# Altium footprint library sucaiku.PcbLib: 35 footprints (part 1 of 3)
Each footprint in its own frame and in the unit in brackets; x right, y up, seen from the top. Pads: shape width x height; smd on the part's side, far side on the other; paste and mask are expansions set on the pad; w line width, h text height; cw(c..) or ccw(c..) is an arc to the next point about the centre after c.
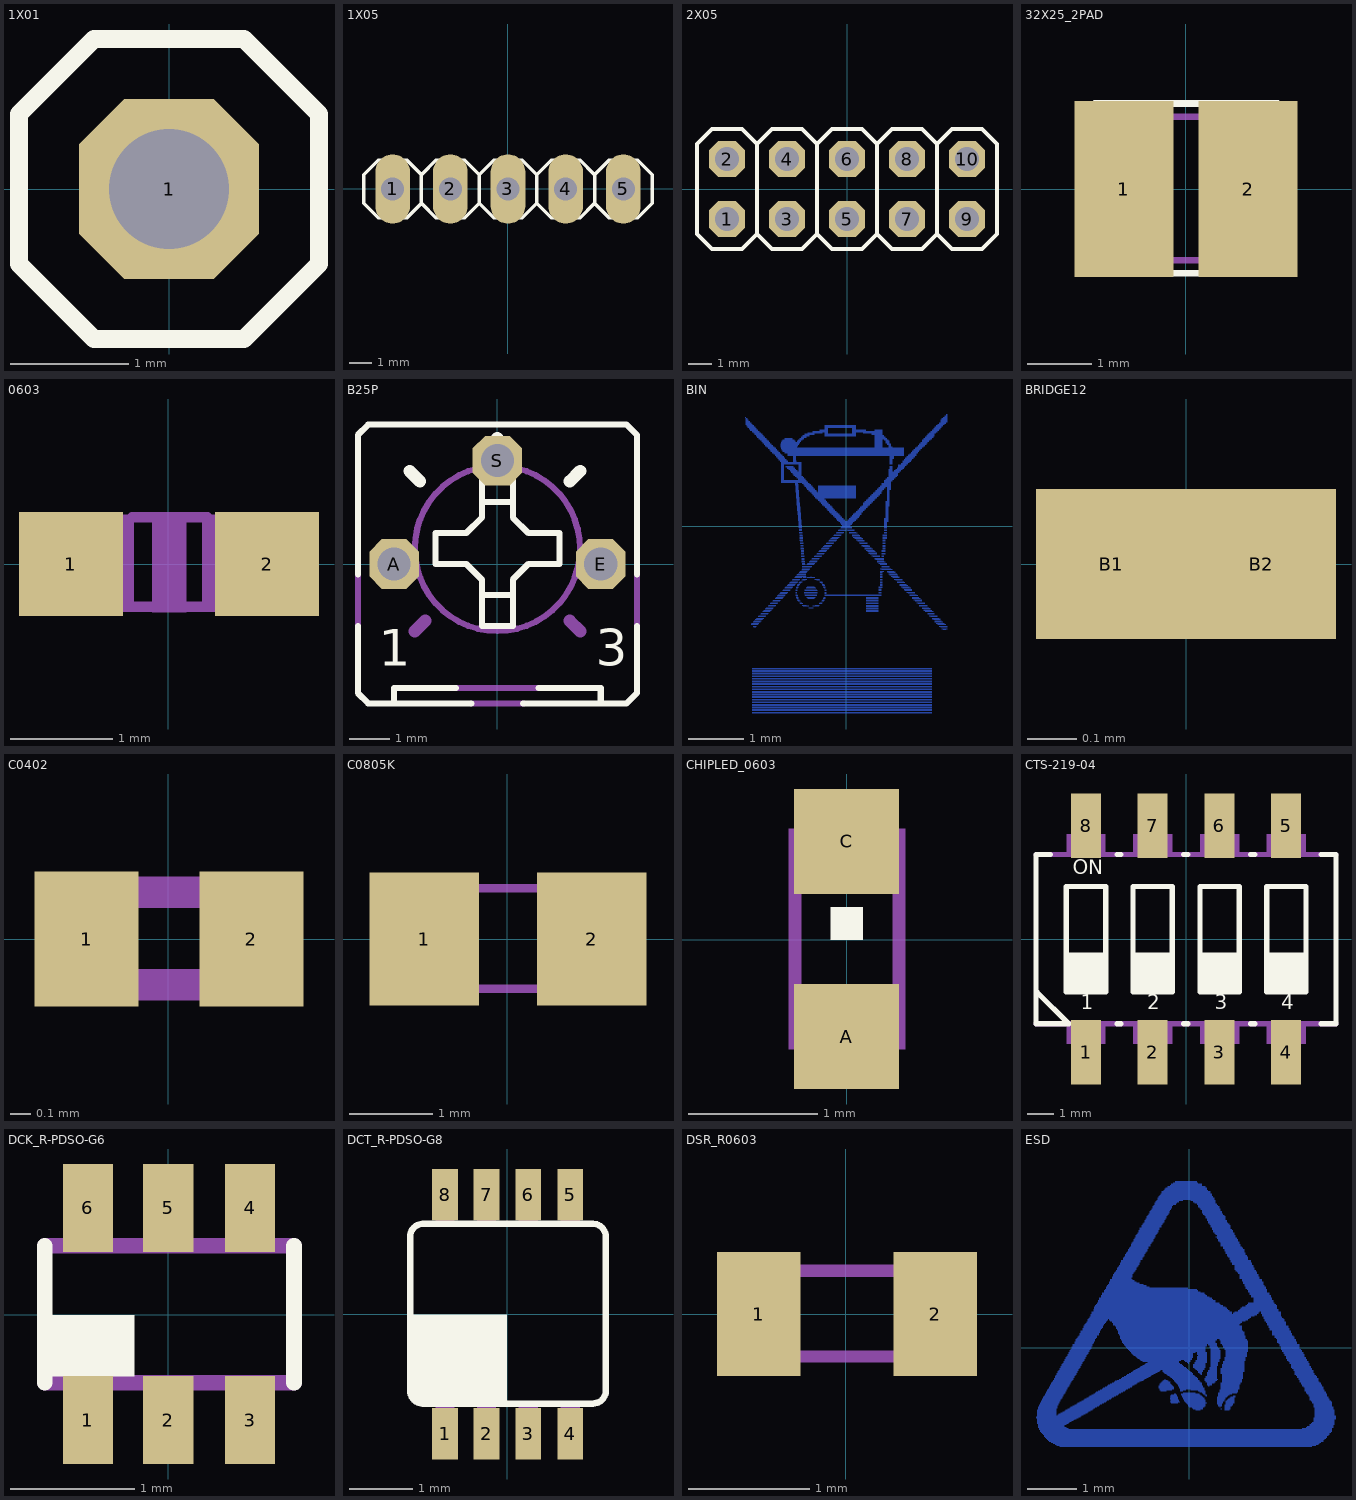
[diagram p0: the footprints below, top view; thin cyan lines are the x and y axes]

## 1X01 [mil] "1X01"
pads (1):
  oct 60x60 hole 40: 1(0,0)
Top Overlay:
  lines w6: -50,-25 -50,25 -25,50 25,50 50,25 50,-25 25,-50 -25,-50 -50,-25
Mechanical 16:
  rectangle: -10,-10 10,10

## 1X05 [mil] "1X05"
pads (5):
  oval 60x120 hole 40: 1(-200,0) 2(-100,0) 3(0,0) 4(100,0) 5(200,0)
Top Overlay:
  lines w6: -150,-25 -150,25 ; -150,-25 -175,-50 -225,-50 -250,-25 -250,25 -225,50 -175,50 -150,25 ; -150,-25 -125,-50 -75,-50 -50,-25 ; -150,25 -125,50 -75,50 -50,25 ; -50,-25 -25,-50 25,-50 50,-25 ; -50,-25 -50,25 ; -50,25 -25,50 25,50 50,25 ; 50,-25 50,25 ; 50,-25 75,-50 125,-50 150,-25 ; 50,25 75,50 125,50 150,25 ; 150,-25 150,25 ; 150,-25 175,-50 225,-50 250,-25 250,25 225,50 175,50 150,25
Mechanical 16:
  rectangle: 90,-10 110,10
  rectangle: -10,-10 10,10
  rectangle: -110,-10 -90,10
  rectangle: -210,-10 -190,10
  rectangle: 190,-10 210,10

## 2X05 [mil] "2X05"
pads (10):
  oct 60x60 hole 40: 1(-200,-50) 2(-200,50) 3(-100,-50) 4(-100,50) 5(0,-50) 6(0,50) 7(100,-50) 8(100,50) 9(200,-50) 10(200,50)
Top Overlay:
  lines w6: -150,-75 -175,-100 -225,-100 -250,-75 -250,75 -225,100 -175,100 -150,75 ; -150,-75 -125,-100 -75,-100 -50,-75 ; -150,-75 -150,75 ; -150,75 -125,100 -75,100 -50,75 ; -50,-75 -25,-100 25,-100 50,-75 ; -50,-75 -50,75 ; -50,75 -25,100 25,100 50,75 ; 50,-75 75,-100 125,-100 150,-75 ; 50,-75 50,75 ; 50,75 75,100 125,100 150,75 ; 150,-75 150,75 ; 150,-75 175,-100 225,-100 250,-75 250,75 225,100 175,100 150,75
Mechanical 16:
  rectangle: -210,-60 -190,-40
  rectangle: -210,40 -190,60
  rectangle: -109.98,40 -89.98,60
  rectangle: -109.98,-60 -89.98,-40
  rectangle: -10,40 10,60
  rectangle: -10,-60 10,-40
  rectangle: 90.02,40 110.02,60
  rectangle: 90.02,-60 110.02,-40
  rectangle: 190,40 210,60
  rectangle: 190,-60 210,-40

## 32X25_2PAD [mil] "32X25_2PAD"
pads (2):
  rect 60x107 smd: 1(-37.4,0) 2(38,0)
Top Overlay:
  lines w4: -62.99,-43.31 -55.12,-51.18 56,-51.18 63,-43.31 63,-31.5 60,-27.56 60,28 63,32 63,44 56,52 -55.12,52 -62.99,44 -62.99,32 -59.06,28 -59.06,-27.56 -62.99,-31.5 -62.99,-43.31
Mechanical 16:
  lines w4: -51.18,-27.56 ccw(c-35.43,-27.56) -35.43,-43.31 36,-43.31 ccw(c36.13,-27.43) 52,-27.56 52,28 ccw(c36,28) 36,44 -35.43,44 ccw(c-35.31,28.13) -51.18,28 -51.18,-27.56

## 0603 [mil] "0603"
pads (2):
  rect 40x40 smd: 1(-37.5,0) 2(38,0)
Mechanical 6:
  rectangle: -6.25,-18.73 7,19.02
Mechanical 16:
  rectangle: -32.98,-18.5 -13.29,19
  rectangle: 13,-18.48 33,19.02
  lines w4: -14.02,-16.5 15,-16.5 ; -14.02,18 15,18

## B25P [mil] "B25P"
pads (3):
  oct 48x48 hole 32: A(-100,0) E(100,0) S(0,100)
Top Overlay:
  lines w6: -135,-60 -135,-125 -125,-135 -100,-135 ; -135,-10 -135,125 -125,135 125,135 135,125 135,-10 ; -40,-120 -100,-120 -100,-135 ; -25,-135 -100,-135 ; 25,-135 100,-135 ; 40,-120 100,-120 100,-135 ; 135,-60 135,-125 125,-135 100,-135 ; -15,-30 -15,-60 15,-60 15,-30 ; -15,-30 15,-30 ; -15,-30 -15,-15 -30,0 -60,0 -60,30 -30,30 -15,45 -15,60 ; -15,60 15,60 ; -15,60 -15,90 15,90 15,60 ; 15,-30 15,-15 30,0 60,0 60,30 30,30 15,45 15,60
  lines w12: -109,15 -94,15 ; -85,90 -75,80 ; 0,107 0,122 ; 70,80 80,90 ; 94,15 109,15
  text "1" at -115,-110 h60.45
  text "3" at 95,-110 h60.45
Mechanical 16:
  circle w6: c0,15 r80
  lines w6: -135,-60 -135,-10 ; -40,-120 40,-120 ; -25,-135 25,-135 ; 135,-60 135,-10
  lines w12: -80,-65 -70,-55 ; 70,-55 80,-65

## BIN [mil] "BIN"
Bottom Layer:
  drawing of 1868 lines, arcs and shapes, not listed

## BRIDGE12 [mil] "BRIDGE12"
pads (2):
  rect 12x12 smd: B1(-6,0) B2(6,0)

## C0402 [mil] "C0402"
pads (2):
  rect 20x26 smd: 1(-15.75,0) 2(16,0)
Mechanical 16:
  rectangle: -21.79,-12 -9.97,12
  rectangle: 11,-12 22,12
  lines w6: -9.65,-8.82 10,-8.82 ; -9.65,9 10,9

## C0805K [mil] "C0805K"
pads (2):
  rect 52x63 smd: 1(-39.37,0) 2(40,0)
Mechanical 16:
  rectangle: -39.37,-25.59 -19.68,26
  rectangle: 20,-25.59 40,26
  lines w4: -36.42,-23.62 37,-23.62 ; -36.42,24 37,24

## CHIPLED_0603 [mil] "CHIPLED_0603"
pads (2):
  rect 32x32 smd: A(0,-29.53) C(0,30)
Top Overlay:
  rectangle: -4.92,0 5,10
Mechanical 16:
  circle w2: c-13.78,25 r3
  rectangle: -17.72,28 -9.84,34
  rectangle: -10.83,22 -8.86,24
  rectangle: -17.72,14 -15.75,29
  rectangle: 10,22 18,34
  rectangle: -17.72,14 18,23
  rectangle: -17.72,-33.46 -9.84,-13.78
  rectangle: 10,-33.46 18,-13.78
  rectangle: -10.83,-22.64 11,-13.78
  rectangle: -10.83,-25.59 -6.89,-21.65
  rectangle: 7,-25.59 11,-21.65
  lines w2: -10.83,-32.48 cw(c0.09,-32.48) 11,-32.48
  lines w4: -15.75,-13.78 -15.75,15 ; -11.81,32 ccw(c0.09,33.04) 12,32 ; 16,-13.78 16,14

## CTS-219-04 [mil] "CTS-219-04"
pads (8):
  rect 45x97 smd: 1(-150,-169.29) 2(-50,-169.29) 3(50,-169.29) 4(150,-169.29) 5(150,170) 6(50,170) 7(-50,170) 8(-150,170)
Top Overlay:
  rectangle: -179.53,-78.72 -120.47,-19.66
  rectangle: -79.53,-78.74 -20.47,-19.68
  rectangle: 21,-78.72 80,-19.66
  rectangle: 121,-78.74 180,-19.68
  lines w8: -224.02,-78.74 -175.79,-126.97 ; -203.15,-126.97 -175.79,-126.97 ; -203.15,127 -225,127 -225,-126.97 -175.79,-126.97 ; -103.15,-126.97 -97.83,-126.97 ; -103.15,127 -97.83,127 ; -3.15,-126.97 3,-126.97 ; -3.15,127 3,127 ; 97,-126.97 103,-126.97 ; 97,127 103,127 ; 203,-126.97 225,-126.97 225,127 203,127 ; -179.53,-78.74 -120.47,-78.74 -120.47,79 -179.53,79 -179.53,-78.74 ; -79.53,-78.74 -20.47,-78.74 -20.47,79 -79.53,79 -79.53,-78.74 ; 21,-78.74 80,-78.74 80,79 21,79 21,-78.74 ; 121,-78.74 180,-78.74 180,79 121,79 121,-78.74
  text "ON" at -169.69,90 h37.2
  text "1" at -157.87,-112.2 h37.2
  text "2" at -57.87,-112.2 h37.2
  text "3" at 43,-112.2 h37.2
  text "4" at 143,-112.2 h37.2
Mechanical 16:
  region: -120.47,-127.95 -179.53,-127.95 -179.53,-157.48 -120.47,-157.48
  region: 80,-127.95 21,-127.95 21,-157.48 80,-157.48
  region: -20.47,-127.95 -79.53,-127.95 -79.53,-157.48 -20.47,-157.48
  region: 180,-127.95 121,-127.95 121,-157.48 180,-157.48
  rectangle: 121,128 180,158
  rectangle: -79.53,128 -20.47,158
  rectangle: 21,128.02 80,158.02
  rectangle: -179.53,128.02 -120.47,158.02
  region: -140.16,195 -159.84,195 -159.84,158 -140.16,158
  rectangle: -159.84,-194.88 -140.16,-157.48
  region: -40.18,195 -59.87,195 -59.87,158 -40.18,158
  rectangle: -59.84,-194.88 -40.16,-157.48
  region: 60,195 41,195 41,158 60,158
  rectangle: 41.02,-194.88 60.02,-157.48
  region: 160,195 141,195 141,158 160,158
  rectangle: 141,-194.88 160,-157.48
  lines w8: -225,-126.97 225,-126.97 ; -225,127 225,127

## DCK_R-PDSO-G6 [mil] "DCK_R-PDSO-G6"
pads (6):
  rect 16x28 smd: 1(-25.59,-33.46) 2(0,-33.46) 3(26,-33.46) 4(26,34) 5(0,34) 6(-25.59,34)
Top Overlay:
  rectangle: -37.38,-19.66 -10.8,0.02
  lines w5: -39.37,-21.65 -39.37,22 ; 40,-21.65 40,22
Mechanical 16:
  rectangle: -4.92,-41.34 5,-23.62
  rectangle: -30.51,-41.34 -20.67,-23.62
  rectangle: 21,-41.34 31,-23.62
  rectangle: -30.51,24 -20.67,42
  rectangle: 21,24 31,42
  rectangle: -4.92,24 5,42
  lines w5: -39.37,-21.65 40,-21.65 ; -39.37,22 40,22

## DCT_R-PDSO-G8 [mil] "DCT_R-PDSO-G8"
pads (8):
  rect 16x32 smd: 1(-38.39,-73.82) 2(-12.8,-73.82) 3(13,-73.82) 4(39,-73.82) 5(39,74) 6(13,74) 7(-12.8,74) 8(-38.39,74)
Top Overlay:
  rectangle: -59.05,-53.15 0,0
  lines w4: -60.04,-47.24 ccw(c-52.17,-47.24) -52.17,-55.12 53,-55.12 ccw(c53.06,-47.18) 61,-47.24 61,48 ccw(c53,48) 53,56 -52.17,56 ccw(c-52.1,48.06) -60.04,48 -60.04,-47.24
Top Solder:
  rectangle: -48.23,-92.52 -28.54,-56.1
  rectangle: -22.64,-92.52 -2.95,-56.1
  rectangle: 3,-92.52 23,-56.1
  rectangle: 29,-92.52 49,-56.1
  region: 49,93 29,93 29,57 49,57
  region: 23,93 3,93 3,57 23,57
  region: -2.93,93 -22.61,93 -22.61,57 -2.93,57
  region: -28.54,93 -48.23,93 -48.23,57 -28.54,57
Mechanical 16:
  rectangle: -44.29,-83.66 -32.48,-55.12
  rectangle: -18.7,-83.66 -6.89,-55.12
  rectangle: 7,-83.66 19,-55.12
  rectangle: 33,-83.66 45,-55.12
  region: 45,84 33,84 33,56 45,56
  region: 19,84 7,84 7,56 19,56
  region: -6.86,84 -18.68,84 -18.68,56 -6.86,56
  region: -32.48,84 -44.29,84 -44.29,56 -32.48,56

## DSR_R0603 [mil] "DSR_R0603"
pads (2):
  rect 27x40 smd: 1(-28.15,0) 2(29,0)
Mechanical 16:
  rectangle: -31.5,-15.75 -17.72,16
  rectangle: 18,-15.73 32,16.02
  lines w4: -28.54,-13.78 29,-13.78 ; -28.54,14 29,14

## ESD [mil] "ESD"
Bottom Layer:
  region: 98,-78.22 -103.41,-78.22 -103.41,-79 98,-79
  region: 101,-77.43 -105.77,-77.43 -105.77,-78.22 101,-78.22
  region: 103,-76.65 -107.35,-76.65 -107.35,-77.43 103,-77.43
  region: 104,-75.85 -108.92,-75.85 -108.92,-76.64 104,-76.64
  region: 105,-75.07 -110.5,-75.07 -110.5,-75.85 105,-75.85
  region: 107,-74.28 -112.07,-74.28 -112.07,-75.07 107,-75.07
  region: 107,-73.49 -112.85,-73.49 -112.85,-74.28 107,-74.28
  region: 108,-72.7 -113.64,-72.7 -113.64,-73.49 108,-73.49
  region: 109,-71.92 -114.43,-71.92 -114.43,-72.7 109,-72.7
  region: 110,-71.13 -115.22,-71.13 -115.22,-71.92 110,-71.92
  region: 110,-70.34 -116,-70.34 -116,-71.13 110,-71.13
  region: 111,-69.56 -116.01,-69.56 -116.01,-70.35 111,-70.35
  region: 112,-68.77 -116.8,-68.77 -116.8,-69.56 112,-69.56
  region: 112,-67.98 -117.58,-67.98 -117.58,-68.77 112,-68.77
  region: 113,-67.19 -118.37,-67.19 -118.37,-67.98 113,-67.98
  region: 114,-66.41 -119.15,-66.41 -119.15,-67.19 114,-67.19
  region: 114,-65.62 -119.15,-65.62 -119.15,-66.41 114,-66.41
  region: 114,-64.83 -119.94,-64.83 -119.94,-65.62 114,-65.62
  region: 114,-64.04 90,-64.04 90,-64.83 114,-64.83
  region: -96.32,-64.04 -119.94,-64.04 -119.94,-64.83 -96.32,-64.83
  region: 115,-63.26 93,-63.26 93,-64.04 115,-64.04
  region: -97.9,-63.26 -120.73,-63.26 -120.73,-64.04 -97.9,-64.04
  region: 115,-62.47 94,-62.47 94,-63.26 115,-63.26
  region: -99.47,-62.47 -120.73,-62.47 -120.73,-63.26 -99.47,-63.26
  region: 115,-61.68 96,-61.68 96,-62.47 115,-62.47
  region: -99.47,-61.68 -120.73,-61.68 -120.73,-62.47 -99.47,-62.47
  region: 116,-60.89 96,-60.89 96,-61.68 116,-61.68
  region: -97.9,-60.89 -120.73,-60.89 -120.73,-61.68 -97.9,-61.68
  region: 116,-60.11 97,-60.11 97,-60.89 116,-60.89
  region: -96.32,-60.11 -121.52,-60.11 -121.52,-60.89 -96.32,-60.89
  region: 116,-59.32 98,-59.32 98,-60.11 116,-60.11
  region: -95.54,-59.32 -121.52,-59.32 -121.52,-60.11 -95.54,-60.11
  region: 116,-58.53 99,-58.53 99,-59.32 116,-59.32
  region: -93.96,-58.54 -121.52,-58.54 -121.52,-59.32 -93.96,-59.32
  region: 116,-57.74 99,-57.74 99,-58.53 116,-58.53
  region: -92.38,-57.74 -121.52,-57.74 -121.52,-58.53 -92.38,-58.53
  region: 116,-56.96 99,-56.96 99,-57.74 116,-57.74
  region: -91.6,-56.96 -121.52,-56.96 -121.52,-57.74 -91.6,-57.74
  region: 117,-56.17 99,-56.17 99,-56.96 117,-56.96
  region: -90.02,-56.17 -121.52,-56.17 -121.52,-56.96 -90.02,-56.96
  region: 117,-55.38 99,-55.38 99,-56.17 117,-56.17
  region: -88.45,-55.38 -122.31,-55.38 -122.31,-56.17 -88.45,-56.17
  region: 117,-54.59 100,-54.59 100,-55.38 117,-55.38
  region: -86.87,-54.6 -122.31,-54.6 -122.31,-55.39 -86.87,-55.39
  region: 117,-53.81 100,-53.81 100,-54.59 117,-54.59
  region: -86.08,-53.81 -121.52,-53.81 -121.52,-54.59 -86.08,-54.59
  region: 116,-53.02 100,-53.02 100,-53.81 116,-53.81
  region: -84.51,-53.02 -104.98,-53.02 -104.98,-53.81 -84.51,-53.81
  region: -105.77,-53.02 -121.52,-53.02 -121.52,-53.81 -105.77,-53.81
  region: 116,-52.23 100,-52.23 100,-53.02 116,-53.02
  region: -82.94,-52.23 -104.2,-52.23 -104.2,-53.02 -82.94,-53.02
  region: -105.77,-52.23 -121.52,-52.23 -121.52,-53.02 -105.77,-53.02
  region: 116,-51.44 100,-51.44 100,-52.23 116,-52.23
  region: -81.36,-51.44 -102.62,-51.44 -102.62,-52.23 -81.36,-52.23
  region: -105.77,-51.44 -121.52,-51.44 -121.52,-52.23 -105.77,-52.23
  region: 116,-50.66 100,-50.66 100,-51.44 116,-51.44
  region: -80.57,-50.66 -101.05,-50.66 -101.05,-51.45 -80.57,-51.45
  region: -105.77,-50.66 -121.52,-50.66 -121.52,-51.45 -105.77,-51.45
  region: 116,-49.87 100,-49.87 100,-50.66 116,-50.66
  region: -79,-49.87 -99.47,-49.87 -99.47,-50.66 -79,-50.66
  region: -105.77,-49.87 -121.52,-49.87 -121.52,-50.66 -105.77,-50.66
  region: 116,-49.08 100,-49.08 100,-49.87 116,-49.87
  region: 32,-49.08 28,-49.08 28,-49.87 32,-49.87
  region: 9,-49.08 5,-49.08 5,-49.87 9,-49.87
  region: -77.43,-49.08 -98.69,-49.08 -98.69,-49.87 -77.43,-49.87
  region: -105.77,-49.08 -121.52,-49.08 -121.52,-49.87 -105.77,-49.87
  region: 115,-48.3 100,-48.3 100,-49.08 115,-49.08
  region: 33,-48.3 28,-48.3 28,-49.08 33,-49.08
  region: 26,-48.3 25,-48.3 25,-49.08 26,-49.08
  region: 11,-48.3 3,-48.3 3,-49.08 11,-49.08
  region: -76.64,-48.3 -97.11,-48.3 -97.11,-49.08 -76.64,-49.08
  region: -105.77,-48.3 -120.73,-48.3 -120.73,-49.08 -105.77,-49.08
  region: 115,-47.51 100,-47.51 100,-48.3 115,-48.3
  region: 33,-47.51 28,-47.51 28,-48.3 33,-48.3
  region: 11,-47.51 2,-47.51 2,-48.3 11,-48.3
  region: -75.06,-47.51 -95.54,-47.51 -95.54,-48.3 -75.06,-48.3
  region: -104.98,-47.51 -120.73,-47.51 -120.73,-48.3 -104.98,-48.3
  region: 115,-46.72 99,-46.72 99,-47.51 115,-47.51
  region: 33,-46.72 28,-46.72 28,-47.51 33,-47.51
  region: 25,-46.72 24,-46.72 24,-47.51 25,-47.51
  region: 12,-46.72 -0.26,-46.72 -0.26,-47.51 12,-47.51
  region: -73.48,-46.72 -94.74,-46.72 -94.74,-47.51 -73.48,-47.51
  region: -104.98,-46.72 -120.73,-46.72 -120.73,-47.51 -104.98,-47.51
  region: 114,-45.94 99,-45.94 99,-46.72 114,-46.72
  region: 34,-45.94 28,-45.94 28,-46.72 34,-46.72
  region: 26,-45.94 23,-45.94 23,-46.72 26,-46.72
  region: 13,-45.94 -1.04,-45.94 -1.04,-46.72 13,-46.72
  region: -71.91,-45.94 -93.17,-45.94 -93.17,-46.72 -71.91,-46.72
  region: -104.98,-45.94 -119.94,-45.94 -119.94,-46.72 -104.98,-46.72
  region: 114,-45.15 99,-45.15 99,-45.93 114,-45.93
  region: 35,-45.15 28,-45.15 28,-45.93 35,-45.93
  region: 26,-45.15 23,-45.15 23,-45.93 26,-45.93
  region: 13,-45.15 -1.05,-45.15 -1.05,-45.93 13,-45.93
  region: -71.13,-45.15 -91.6,-45.15 -91.6,-45.93 -71.13,-45.93
  region: -104.2,-45.15 -119.94,-45.15 -119.94,-45.93 -104.2,-45.93
  region: 114,-44.36 99,-44.36 99,-45.15 114,-45.15
  region: 35,-44.36 29,-44.36 29,-45.15 35,-45.15
  region: 26,-44.36 22,-44.36 22,-45.15 26,-45.15
  region: 13,-44.36 -1.83,-44.36 -1.83,-45.15 13,-45.15
  region: -69.55,-44.36 -90.02,-44.36 -90.02,-45.15 -69.55,-45.15
  region: -104.2,-44.36 -119.16,-44.36 -119.16,-45.15 -104.2,-45.15
  region: 114,-43.57 98,-43.57 98,-44.36 114,-44.36
  region: 36,-43.57 29,-43.57 29,-44.36 36,-44.36
  region: 27,-43.57 22,-43.57 22,-44.36 27,-44.36
  region: 14,-43.57 -2.62,-43.57 -2.62,-44.36 14,-44.36
  region: -8.92,-43.57 -14.43,-43.57 -14.43,-44.36 -8.92,-44.36
  region: -67.98,-43.57 -89.24,-43.57 -89.24,-44.36 -67.98,-44.36
  region: -103.41,-43.57 -119.16,-43.57 -119.16,-44.36 -103.41,-44.36
  region: 114,-42.79 98,-42.79 98,-43.57 114,-43.57
  region: 36,-42.79 29,-42.79 29,-43.57 36,-43.57
  region: 27,-42.79 22,-42.79 22,-43.57 27,-43.57
  region: 13,-42.79 -3.41,-42.79 -3.41,-43.57 13,-43.57
  region: -7.35,-42.78 -15.22,-42.78 -15.22,-43.57 -7.35,-43.57
  region: -66.4,-42.79 -87.66,-42.79 -87.66,-43.57 -66.4,-43.57
  region: -103.41,-42.78 -118.37,-42.78 -118.37,-43.57 -103.41,-43.57
  region: 113,-42 97,-42 97,-42.79 113,-42.79
  region: 36,-42 29,-42 29,-42.79 36,-42.79
  region: 28,-42 22,-42 22,-42.79 28,-42.79
  region: 13,-42 -4.19,-42 -4.19,-42.78 13,-42.78
  region: -8.13,-42 -15.22,-42 -15.22,-42.78 -8.13,-42.78
  region: -65.61,-42 -86.09,-42 -86.09,-42.79 -65.61,-42.79
  region: -102.62,-42 -118.37,-42 -118.37,-42.79 -102.62,-42.79
  region: 112,-41.21 96,-41.21 96,-42 112,-42
  region: 36,-41.21 30,-41.21 30,-42 36,-42
  region: 28,-41.21 22,-41.21 22,-42 28,-42
  region: 13,-41.21 -4.2,-41.21 -4.2,-42 13,-42
  region: -8.13,-41.21 -15.22,-41.21 -15.22,-42 -8.13,-42
  region: -64.04,-41.21 -84.51,-41.21 -84.51,-42 -64.04,-42
  region: -102.62,-41.21 -117.58,-41.21 -117.58,-42 -102.62,-42
  region: 112,-40.42 96,-40.42 96,-41.21 112,-41.21
  region: 36,-40.42 31,-40.42 31,-41.21 36,-41.21
  region: 29,-40.42 22,-40.42 22,-41.21 29,-41.21
  region: 12,-40.42 -4.98,-40.42 -4.98,-41.21 12,-41.21
  region: -8.92,-40.42 -15.22,-40.42 -15.22,-41.21 -8.92,-41.21
  region: -62.46,-40.42 -83.72,-40.42 -83.72,-41.21 -62.46,-41.21
  region: -101.83,-40.42 -117.58,-40.42 -117.58,-41.21 -101.83,-41.21
  region: 111,-39.63 96,-39.63 96,-40.42 111,-40.42
  region: 36,-39.63 32,-39.63 32,-40.42 36,-40.42
  region: 29,-39.63 22,-39.63 22,-40.42 29,-40.42
  region: 12,-39.63 -4.98,-39.63 -4.98,-40.42 12,-40.42
  region: -8.92,-39.63 -15.22,-39.63 -15.22,-40.42 -8.92,-40.42
  region: -61.68,-39.63 -82.15,-39.63 -82.15,-40.42 -61.68,-40.42
  region: -101.04,-39.63 -116.79,-39.63 -116.79,-40.42 -101.04,-40.42
  region: 111,-38.85 96,-38.85 96,-39.63 111,-39.63
  region: 37,-38.85 33,-38.85 33,-39.63 37,-39.63
  region: 30,-38.85 22,-38.85 22,-39.63 30,-39.63
  region: 11,-38.85 -5.77,-38.85 -5.77,-39.64 11,-39.64
  region: -8.92,-38.85 -15.22,-38.85 -15.22,-39.63 -8.92,-39.63
  region: -60.1,-38.85 -80.57,-38.85 -80.57,-39.63 -60.1,-39.63
  region: -101.04,-38.85 -116.79,-38.85 -116.79,-39.63 -101.04,-39.63
  region: 110,-38.06 95,-38.06 95,-38.85 110,-38.85
  region: 37,-38.06 35,-38.06 35,-38.85 37,-38.85
  region: 31,-38.06 23,-38.06 23,-38.85 31,-38.85
  region: 14,-38.06 13,-38.06 13,-38.85 14,-38.85
  region: 10,-38.06 -5.77,-38.06 -5.77,-38.85 10,-38.85
  region: -9.71,-38.06 -15.22,-38.06 -15.22,-38.85 -9.71,-38.85
  region: -58.52,-38.06 -79.78,-38.06 -79.78,-38.85 -58.52,-38.85
  region: -100.26,-38.06 -116,-38.06 -116,-38.85 -100.26,-38.85
  region: 110,-37.27 95,-37.27 95,-38.06 110,-38.06
  region: 32,-37.27 23,-37.27 23,-38.06 32,-38.06
  region: 14,-37.27 12,-37.27 12,-38.06 14,-38.06
  region: 9,-37.27 -6.56,-37.27 -6.56,-38.06 9,-38.06
  region: -9.71,-37.27 -14.43,-37.27 -14.43,-38.06 -9.71,-38.06
  region: -56.95,-37.27 -78.21,-37.27 -78.21,-38.06 -56.95,-38.06
  region: -100.26,-37.27 -115.22,-37.27 -115.22,-38.06 -100.26,-38.06
  region: 110,-36.48 94,-36.48 94,-37.27 110,-37.27
  region: 34,-36.48 23,-36.48 23,-37.27 34,-37.27
  region: 13,-36.48 11,-36.48 11,-37.27 13,-37.27
  region: 8,-36.48 -6.56,-36.48 -6.56,-37.27 8,-37.27
  region: -10.5,-36.48 -12.07,-36.48 -12.07,-37.27 -10.5,-37.27
  region: -56.17,-36.48 -76.64,-36.48 -76.64,-37.27 -56.17,-37.27
  region: -99.47,-36.48 -115.22,-36.48 -115.22,-37.27 -99.47,-37.27
  region: 109,-35.7 93,-35.7 93,-36.48 109,-36.48
  region: 38,-35.7 23,-35.7 23,-36.48 38,-36.48
  region: 13,-35.7 10,-35.7 10,-36.48 13,-36.48
  region: 5,-35.7 -4.98,-35.7 -4.98,-36.48 5,-36.48
  region: -54.59,-35.7 -75.06,-35.7 -75.06,-36.48 -54.59,-36.48
  region: -98.69,-35.7 -114.43,-35.7 -114.43,-36.48 -98.69,-36.48
  region: 109,-34.91 93,-34.91 93,-35.7 109,-35.7
  region: 39,-34.91 24,-34.91 24,-35.7 39,-35.7
  region: 13,-34.91 8,-34.91 8,-35.7 13,-35.7
  region: -53.02,-34.91 -74.28,-34.91 -74.28,-35.7 -53.02,-35.7
  region: -98.69,-34.91 -114.43,-34.91 -114.43,-35.7 -98.69,-35.7
  region: 108,-34.12 92,-34.12 92,-34.91 108,-34.91
  region: 39,-34.12 24,-34.12 24,-34.91 39,-34.91
  region: 13,-34.12 7,-34.12 7,-34.91 13,-34.91
  region: -4.98,-34.12 -7.35,-34.12 -7.35,-34.91 -4.98,-34.91
  region: -18.37,-34.12 -23.09,-34.12 -23.09,-34.91 -18.37,-34.91
  region: -51.44,-34.12 -72.7,-34.12 -72.7,-34.91 -51.44,-34.91
  region: -97.9,-34.12 -113.65,-34.12 -113.65,-34.91 -97.9,-34.91
  region: 108,-33.33 92,-33.33 92,-34.12 108,-34.12
  region: 39,-33.33 24,-33.33 24,-34.12 39,-34.12
  region: 12,-33.33 1,-33.33 1,-34.12 12,-34.12
  region: -2.62,-33.33 -7.35,-33.33 -7.35,-34.12 -2.62,-34.12
  region: -13.65,-33.33 -23.88,-33.33 -23.88,-34.12 -13.65,-34.12
  region: -50.65,-33.33 -71.13,-33.33 -71.13,-34.12 -50.65,-34.12
  region: -97.9,-33.33 -113.65,-33.33 -113.65,-34.12 -97.9,-34.12
  region: 107,-32.55 92,-32.55 92,-33.33 107,-33.33
  region: 40,-32.55 25,-32.55 25,-33.33 40,-33.33
  region: 12,-32.55 -7.34,-32.55 -7.34,-33.33 12,-33.33
  region: -12.07,-32.55 -23.88,-32.55 -23.88,-33.33 -12.07,-33.33
  region: -49.07,-32.55 -69.55,-32.55 -69.55,-33.33 -49.07,-33.33
  region: -97.11,-32.55 -112.85,-32.55 -112.85,-33.33 -97.11,-33.33
  region: 107,-31.76 92,-31.76 92,-32.55 107,-32.55
  region: 40,-31.76 25,-31.76 25,-32.55 40,-32.55
  region: 12,-31.76 -8.13,-31.76 -8.13,-32.55 12,-32.55
  region: -12.07,-31.76 -24.67,-31.76 -24.67,-32.55 -12.07,-32.55
  region: -47.5,-31.76 -68.76,-31.76 -68.76,-32.55 -47.5,-32.55
  region: -97.11,-31.76 -112.07,-31.76 -112.07,-32.55 -97.11,-32.55
  region: 107,-30.97 91,-30.97 91,-31.76 107,-31.76
  region: 40,-30.98 25,-30.98 25,-31.76 40,-31.76
  region: 11,-30.98 -8.13,-30.98 -8.13,-31.76 11,-31.76
  region: -12.07,-30.98 -24.67,-30.98 -24.67,-31.76 -12.07,-31.76
  region: -45.93,-30.97 -67.19,-30.97 -67.19,-31.76 -45.93,-31.76
  region: -96.32,-30.97 -112.07,-30.97 -112.07,-31.76 -96.32,-31.76
  region: 106,-30.18 90,-30.18 90,-30.97 106,-30.97
  region: 40,-30.18 25,-30.18 25,-30.97 40,-30.97
  region: 16,-30.18 15,-30.18 15,-30.97 16,-30.97
  region: 11,-30.18 -8.92,-30.18 -8.92,-30.97 11,-30.97
  region: -12.86,-30.18 -24.67,-30.18 -24.67,-30.97 -12.86,-30.97
  region: -45.14,-30.18 -65.61,-30.18 -65.61,-30.97 -45.14,-30.97
  region: -95.54,-30.18 -111.28,-30.18 -111.28,-30.97 -95.54,-30.97
  region: 106,-29.4 90,-29.4 90,-30.18 106,-30.18
  region: 40,-29.4 25,-29.4 25,-30.18 40,-30.18
  region: 18,-29.4 14,-29.4 14,-30.18 18,-30.18
  region: 10,-29.4 -8.92,-29.4 -8.92,-30.18 10,-30.18
  region: -13.65,-29.4 -23.88,-29.4 -23.88,-30.18 -13.65,-30.18
  region: -43.57,-29.4 -64.83,-29.4 -64.83,-30.18 -43.57,-30.18
  region: -95.54,-29.4 -111.28,-29.4 -111.28,-30.18 -95.54,-30.18
  region: 105,-28.61 89,-28.61 89,-29.4 105,-29.4
  region: 41,-28.61 25,-28.61 25,-29.4 41,-29.4
  region: 18,-28.61 14,-28.61 14,-29.4 18,-29.4
  region: 10,-28.61 -9.71,-28.61 -9.71,-29.4 10,-29.4
  region: -14.43,-28.61 -23.88,-28.61 -23.88,-29.4 -14.43,-29.4
  region: -41.99,-28.61 -63.25,-28.61 -63.25,-29.4 -41.99,-29.4
  region: -94.75,-28.61 -110.5,-28.61 -110.5,-29.4 -94.75,-29.4
  region: 105,-27.82 89,-27.82 89,-28.61 105,-28.61
  region: 41,-27.82 25,-27.82 25,-28.61 41,-28.61
  region: 20,-27.82 14,-27.82 14,-28.61 20,-28.61
  region: 10,-27.83 -10.5,-27.83 -10.5,-28.61 10,-28.61
  region: -15.22,-27.82 -23.09,-27.82 -23.09,-28.61 -15.22,-28.61
  region: -41.2,-27.82 -61.67,-27.82 -61.67,-28.61 -41.2,-28.61
  region: -94.75,-27.82 -110.5,-27.82 -110.5,-28.61 -94.75,-28.61
  region: 104,-27.04 88,-27.04 88,-27.83 104,-27.83
  region: 42,-27.04 26,-27.04 26,-27.82 42,-27.82
  region: 21,-27.04 13,-27.04 13,-27.83 21,-27.83
  region: 9,-27.04 -11.28,-27.04 -11.28,-27.83 9,-27.83
  region: -15.22,-27.04 -22.3,-27.04 -22.3,-27.82 -15.22,-27.82
  region: -39.63,-27.04 -60.1,-27.04 -60.1,-27.83 -39.63,-27.83
  region: -93.96,-27.04 -109.7,-27.04 -109.7,-27.82 -93.96,-27.82
  region: 103,-26.25 88,-26.25 88,-27.04 103,-27.04
  region: 42,-26.25 26,-26.25 26,-27.04 42,-27.04
  region: 21,-26.25 13,-26.25 13,-27.04 21,-27.04
  region: 8,-26.25 -12.07,-26.25 -12.07,-27.04 8,-27.04
  region: -16.8,-26.25 -21.52,-26.25 -21.52,-27.04 -16.8,-27.04
  region: -38.06,-26.25 -59.31,-26.25 -59.31,-27.04 -38.06,-27.04
  region: -93.96,-26.25 -108.92,-26.25 -108.92,-27.04 -93.96,-27.04
  region: 103,-25.46 88,-25.46 88,-26.25 103,-26.25
  region: 42,-25.46 26,-25.46 26,-26.25 42,-26.25
  region: 22,-25.46 12,-25.46 12,-26.25 22,-26.25
  region: 8,-25.46 -12.07,-25.46 -12.07,-26.25 8,-26.25
  region: -17.58,-25.46 -20.73,-25.46 -20.73,-26.25 -17.58,-26.25
  region: -36.48,-25.46 -57.74,-25.46 -57.74,-26.25 -36.48,-26.25
  region: -93.17,-25.46 -108.92,-25.46 -108.92,-26.25 -93.17,-26.25
  region: 103,-24.67 87,-24.67 87,-25.46 103,-25.46
  region: 42,-24.67 26,-24.67 26,-25.46 42,-25.46
  region: 23,-24.67 12,-24.67 12,-25.46 23,-25.46
  region: 7,-24.67 -12.86,-24.67 -12.86,-25.46 7,-25.46
  region: -19.16,-24.67 -19.94,-24.67 -19.94,-25.46 -19.16,-25.46
  region: -35.69,-24.67 -56.17,-24.67 -56.17,-25.46 -35.69,-25.46
  region: -92.39,-24.67 -108.13,-24.67 -108.13,-25.46 -92.39,-25.46
  region: 103,-23.89 87,-23.89 87,-24.67 103,-24.67
  region: 43,-23.89 26,-23.89 26,-24.68 43,-24.68
  region: 22,-23.89 12,-23.89 12,-24.67 22,-24.67
  region: 7,-23.89 -13.64,-23.89 -13.64,-24.67 7,-24.67
  region: -34.12,-23.89 -54.59,-23.89 -54.59,-24.68 -34.12,-24.68
  region: -92.39,-23.89 -108.13,-23.89 -108.13,-24.67 -92.39,-24.67
  region: 102,-23.1 86,-23.1 86,-23.89 102,-23.89
  region: 43,-23.1 26,-23.1 26,-23.89 43,-23.89
  region: 22,-23.1 13,-23.1 13,-23.89 22,-23.89
  region: 6,-23.1 -15.22,-23.1 -15.22,-23.89 6,-23.89
  region: -32.54,-23.1 -53.8,-23.1 -53.8,-23.89 -32.54,-23.89
  region: -91.6,-23.1 -107.35,-23.1 -107.35,-23.89 -91.6,-23.89
  region: 102,-22.31 86,-22.31 86,-23.1 102,-23.1
  region: 43,-22.31 26,-22.31 26,-23.1 43,-23.1
  region: 22,-22.31 13,-22.31 13,-23.1 22,-23.1
  region: 5,-22.31 -16.01,-22.31 -16.01,-23.1 5,-23.1
  region: -30.97,-22.31 -52.23,-22.31 -52.23,-23.1 -30.97,-23.1
  region: -91.6,-22.31 -107.35,-22.31 -107.35,-23.1 -91.6,-23.1
  region: 101,-21.52 85,-21.52 85,-22.31 101,-22.31
  region: 43,-21.52 26,-21.52 26,-22.31 43,-22.31
  region: 22,-21.52 14,-21.52 14,-22.31 22,-22.31
  region: 4,-21.52 -17.58,-21.52 -17.58,-22.31 4,-22.31
  region: -30.18,-21.52 -50.65,-21.52 -50.65,-22.31 -30.18,-22.31
  region: -90.81,-21.52 -106.56,-21.52 -106.56,-22.31 -90.81,-22.31
  region: 100,-20.74 84,-20.74 84,-21.52 100,-21.52
  region: 43,-20.74 26,-20.74 26,-21.52 43,-21.52
  region: 22,-20.74 14,-20.74 14,-21.52 22,-21.52
  region: 10,-20.74 9,-20.74 9,-21.52 10,-21.52
  region: 3,-20.74 -18.37,-20.74 -18.37,-21.52 3,-21.52
  region: -28.61,-20.74 -49.87,-20.74 -49.87,-21.52 -28.61,-21.52
  region: -90.02,-20.74 -105.77,-20.74 -105.77,-21.52 -90.02,-21.52
  region: 100,-19.95 84,-19.95 84,-20.74 100,-20.74
  region: 43,-19.95 25,-19.95 25,-20.74 43,-20.74
  region: 22,-19.95 14,-19.95 14,-20.74 22,-20.74
  region: 10,-19.95 8,-19.95 8,-20.74 10,-20.74
  region: 3,-19.95 -19.94,-19.95 -19.94,-20.74 3,-20.74
  region: -27.03,-19.95 -48.29,-19.95 -48.29,-20.74 -27.03,-20.74
  region: -90.02,-19.95 -105.77,-19.95 -105.77,-20.74 -90.02,-20.74
  region: 99,-19.16 84,-19.16 84,-19.95 99,-19.95
  region: 43,-19.16 25,-19.16 25,-19.95 43,-19.95
  region: 22,-19.16 14,-19.16 14,-19.95 22,-19.95
  region: 10,-19.17 7,-19.17 7,-19.95 10,-19.95
  region: 2,-19.16 -20.73,-19.16 -20.73,-19.95 2,-19.95
  region: -25.46,-19.17 -46.72,-19.17 -46.72,-19.95 -25.46,-19.95
  region: -89.23,-19.16 -104.98,-19.16 -104.98,-19.95 -89.23,-19.95
  region: 99,-18.37 84,-18.37 84,-19.16 99,-19.16
  region: 44,-18.37 25,-18.37 25,-19.16 44,-19.16
  region: 22,-18.37 15,-18.37 15,-19.16 22,-19.16
  region: 11,-18.37 7,-18.37 7,-19.16 11,-19.16
  region: 1,-18.37 -21.52,-18.37 -21.52,-19.16 1,-19.16
  region: -23.88,-18.37 -45.14,-18.37 -45.14,-19.16 -23.88,-19.16
  region: -89.24,-18.37 -104.98,-18.37 -104.98,-19.16 -89.24,-19.16
  region: 99,-17.59 83,-17.59 83,-18.37 99,-18.37
  region: 44,-17.59 25,-17.59 25,-18.37 44,-18.37
  region: 22,-17.59 15,-17.59 15,-18.37 22,-18.37
  region: 11,-17.59 6,-17.59 6,-18.37 11,-18.37
  region: -0.26,-17.59 -21.52,-17.59 -21.52,-18.37 -0.26,-18.37
  region: -23.09,-17.59 -44.35,-17.59 -44.35,-18.37 -23.09,-18.37
  region: -88.45,-17.59 -104.2,-17.59 -104.2,-18.37 -88.45,-18.37
  region: 98,-16.8 83,-16.8 83,-17.59 98,-17.59
  region: 44,-16.8 25,-16.8 25,-17.59 44,-17.59
  region: 22,-16.8 16,-16.8 16,-17.59 22,-17.59
  region: 12,-16.8 5,-16.8 5,-17.59 12,-17.59
  region: -1.05,-16.8 -42.78,-16.8 -42.78,-17.59 -1.05,-17.59
  region: -88.44,-16.8 -103.41,-16.8 -103.41,-17.59 -88.44,-17.59
  region: 98,-16.02 82,-16.02 82,-16.8 98,-16.8
  region: 44,-16.02 25,-16.02 25,-16.8 44,-16.8
  region: 22,-16.01 16,-16.01 16,-16.8 22,-16.8
  region: 12,-16.01 4,-16.01 4,-16.8 12,-16.8
  region: -1.83,-16.02 -41.2,-16.02 -41.2,-16.8 -1.83,-16.8
  region: -87.66,-16.01 -103.41,-16.01 -103.41,-16.8 -87.66,-16.8
  region: 97,-15.23 81,-15.23 81,-16.02 97,-16.02
  region: 44,-15.23 26,-15.23 26,-16.02 44,-16.02
  region: 22,-15.23 16,-15.23 16,-16.02 22,-16.02
  region: 13,-15.23 3,-15.23 3,-16.02 13,-16.02
  region: -2.62,-15.23 -39.63,-15.23 -39.63,-16.02 -2.62,-16.02
  region: -86.87,-15.23 -102.62,-15.23 -102.62,-16.02 -86.87,-16.02
  region: 97,-14.44 81,-14.44 81,-15.22 97,-15.22
  region: 44,-14.44 26,-14.44 26,-15.22 44,-15.22
  region: 22,-14.44 17,-14.44 17,-15.22 22,-15.22
  region: 13,-14.44 3,-14.44 3,-15.22 13,-15.22
  region: -4.2,-14.44 -38.84,-14.44 -38.84,-15.22 -4.2,-15.22
  region: -86.87,-14.44 -102.62,-14.44 -102.62,-15.22 -86.87,-15.22
  region: 96,-13.65 81,-13.65 81,-14.44 96,-14.44
  region: 44,-13.65 26,-13.65 26,-14.44 44,-14.44
  region: 23,-13.65 17,-13.65 17,-14.44 23,-14.44
  region: 13,-13.65 3,-13.65 3,-14.44 13,-14.44
  region: -4.98,-13.65 -37.27,-13.65 -37.27,-14.44 -4.98,-14.44
  region: -86.08,-13.65 -101.83,-13.65 -101.83,-14.44 -86.08,-14.44
  region: 96,-12.86 81,-12.86 81,-13.65 96,-13.65
  region: 44,-12.86 26,-12.86 26,-13.65 44,-13.65
  region: 23,-12.86 17,-12.86 17,-13.65 23,-13.65
  region: 13,-12.86 3,-12.86 3,-13.65 13,-13.65
  region: -5.77,-12.86 -35.69,-12.86 -35.69,-13.65 -5.77,-13.65
  region: -86.08,-12.86 -101.83,-12.86 -101.83,-13.65 -86.08,-13.65
  region: 96,-12.07 80,-12.07 80,-12.86 96,-12.86
  region: 44,-12.08 27,-12.08 27,-12.87 44,-12.87
  region: 23,-12.07 17,-12.07 17,-12.86 23,-12.86
  region: 13,-12.07 4,-12.07 4,-12.86 13,-12.86
  region: -0.26,-12.08 -1.05,-12.08 -1.05,-12.87 -0.26,-12.87
  region: -7.35,-12.07 -34.91,-12.07 -34.91,-12.86 -7.35,-12.86
  region: -85.3,-12.07 -101.04,-12.07 -101.04,-12.86 -85.3,-12.86
  region: 95,-11.29 80,-11.29 80,-12.08 95,-12.08
  region: 44,-11.29 27,-11.29 27,-12.08 44,-12.08
  region: 23,-11.29 17,-11.29 17,-12.08 23,-12.08
  region: 14,-11.29 4,-11.29 4,-12.08 14,-12.08
  region: -0.26,-11.29 -1.83,-11.29 -1.83,-12.07 -0.26,-12.07
  region: -8.13,-11.29 -33.33,-11.29 -33.33,-12.07 -8.13,-12.07
  region: -85.3,-11.29 -100.26,-11.29 -100.26,-12.08 -85.3,-12.08
  region: 95,-10.5 79,-10.5 79,-11.29 95,-11.29
  region: 44,-10.5 27,-10.5 27,-11.29 44,-11.29
  region: 24,-10.5 17,-10.5 17,-11.29 24,-11.29
  region: 14,-10.5 5,-10.5 5,-11.29 14,-11.29
  region: 1,-10.5 -3.41,-10.5 -3.41,-11.29 1,-11.29
  region: -8.13,-10.5 -37.27,-10.5 -37.27,-11.29 -8.13,-11.29
  region: -84.51,-10.5 -100.26,-10.5 -100.26,-11.29 -84.51,-11.29
  region: 94,-9.71 78,-9.71 78,-10.5 94,-10.5
  region: 45,-9.71 28,-9.71 28,-10.5 45,-10.5
  region: 24,-9.71 17,-9.71 17,-10.5 24,-10.5
  region: 14,-9.71 5,-9.71 5,-10.5 14,-10.5
  region: 1,-9.71 -4.19,-9.71 -4.19,-10.5 1,-10.5
  region: -6.56,-9.71 -38.84,-9.71 -38.84,-10.5 -6.56,-10.5
  region: -83.72,-9.71 -99.47,-9.71 -99.47,-10.5 -83.72,-10.5
  region: 94,-8.93 78,-8.93 78,-9.71 94,-9.71
  region: 45,-8.93 28,-8.93 28,-9.71 45,-9.71
  region: 24,-8.93 17,-8.93 17,-9.71 24,-9.71
  region: 14,-8.93 6,-8.93 6,-9.71 14,-9.71
  region: 2,-8.93 -39.63,-8.93 -39.63,-9.71 2,-9.71
  region: -83.72,-8.93 -99.47,-8.93 -99.47,-9.71 -83.72,-9.71
  region: 93,-8.14 77,-8.14 77,-8.93 93,-8.93
  region: 45,-8.14 28,-8.14 28,-8.93 45,-8.93
  region: 25,-8.14 17,-8.14 17,-8.93 25,-8.93
  region: 14,-8.14 6,-8.14 6,-8.93 14,-8.93
  region: 2,-8.14 -41.2,-8.14 -41.2,-8.93 2,-8.93
  region: -82.94,-8.14 -98.69,-8.14 -98.69,-8.93 -82.94,-8.93
  region: 93,-7.35 77,-7.35 77,-8.14 93,-8.14
  region: 45,-7.35 28,-7.35 28,-8.14 45,-8.14
  region: 25,-7.35 17,-7.35 17,-8.14 25,-8.14
  region: 14,-7.35 6,-7.35 6,-8.14 14,-8.14
  region: 3,-7.35 -41.99,-7.35 -41.99,-8.14 3,-8.14
  region: -82.94,-7.35 -98.69,-7.35 -98.69,-8.14 -82.94,-8.14
  region: 92,-6.56 77,-6.56 77,-7.35 92,-7.35
  region: 46,-6.56 29,-6.56 29,-7.35 46,-7.35
  region: 25,-6.56 17,-6.56 17,-7.35 25,-7.35
  region: 14,-6.56 6,-6.56 6,-7.35 14,-7.35
  region: 3,-6.56 -42.78,-6.56 -42.78,-7.35 3,-7.35
  region: -82.15,-6.56 -97.9,-6.56 -97.9,-7.35 -82.15,-7.35
  region: 92,-5.78 76,-5.78 76,-6.56 92,-6.56
  region: 46,-5.78 29,-5.78 29,-6.56 46,-6.56
  region: 25,-5.78 17,-5.78 17,-6.56 25,-6.56
  region: 14,-5.78 7,-5.78 7,-6.56 14,-6.56
  region: 3,-5.78 -44.35,-5.78 -44.35,-6.56 3,-6.56
  region: -82.15,-5.78 -97.11,-5.78 -97.11,-6.56 -82.15,-6.56
  region: 92,-4.99 76,-4.99 76,-5.78 92,-5.78
  region: 46,-4.99 29,-4.99 29,-5.78 46,-5.78
  region: 25,-4.99 17,-4.99 17,-5.78 25,-5.78
  region: 14,-4.99 6,-4.99 6,-5.78 14,-5.78
  region: 3,-4.99 -45.14,-4.99 -45.14,-5.78 3,-5.78
  region: -81.36,-4.99 -97.11,-4.99 -97.11,-5.78 -81.36,-5.78
  region: 91,-4.2 75,-4.2 75,-4.99 91,-4.99
  region: 46,-4.2 29,-4.2 29,-4.99 46,-4.99
  region: 25,-4.2 17,-4.2 17,-4.99 25,-4.99
  region: 14,-4.2 6,-4.2 6,-4.99 14,-4.99
  region: 3,-4.2 -45.93,-4.2 -45.93,-4.99 3,-4.99
  region: -80.57,-4.2 -96.32,-4.2 -96.32,-4.99 -80.57,-4.99
  region: 91,-3.41 75,-3.41 75,-4.2 91,-4.2
  region: 46,-3.41 29,-3.41 29,-4.2 46,-4.2
  region: 25,-3.41 17,-3.41 17,-4.2 25,-4.2
  region: 14,-3.41 6,-3.41 6,-4.2 14,-4.2
  region: 5,-3.41 -46.72,-3.41 -46.72,-4.2 5,-4.2
  region: -80.57,-3.41 -96.32,-3.41 -96.32,-4.2 -80.57,-4.2
  region: 90,-2.63 74,-2.63 74,-3.41 90,-3.41
  region: 47,-2.63 29,-2.63 29,-3.41 47,-3.41
  region: 25,-2.63 17,-2.63 17,-3.41 25,-3.41
  region: 13,-2.63 -47.5,-2.63 -47.5,-3.41 13,-3.41
  region: -79.79,-2.63 -95.54,-2.63 -95.54,-3.41 -79.79,-3.41
  region: 90,-1.84 74,-1.84 74,-2.63 90,-2.63
  region: 47,-1.84 29,-1.84 29,-2.63 47,-2.63
  region: 25,-1.84 17,-1.84 17,-2.63 25,-2.63
  region: 13,-1.84 -48.29,-1.84 -48.29,-2.63 13,-2.63
  region: -79.79,-1.84 -95.54,-1.84 -95.54,-2.63 -79.79,-2.63
  region: 89,-1.05 73,-1.05 73,-1.84 89,-1.84
  region: 47,-1.05 28,-1.05 28,-1.84 47,-1.84
  region: 24,-1.05 17,-1.05 17,-1.84 24,-1.84
  region: 13,-1.05 -49.08,-1.05 -49.08,-1.84 13,-1.84
  region: -79,-1.06 -94.75,-1.06 -94.75,-1.84 -79,-1.84
  region: 88,-0.26 73,-0.26 73,-1.05 88,-1.05
  region: 47,-0.26 28,-0.26 28,-1.05 47,-1.05
  region: 24,-0.26 17,-0.26 17,-1.05 24,-1.05
  region: 13,-0.26 -49.86,-0.26 -49.86,-1.05 13,-1.05
  region: -78.21,-0.26 -93.96,-0.26 -93.96,-1.05 -78.21,-1.05
  region: 88,1 73,1 73,-0.26 88,-0.26
  region: 47,1 27,1 27,-0.26 47,-0.26
  region: 23,1 16,1 16,-0.26 23,-0.26
  region: 13,1 -50.65,1 -50.65,-0.26 13,-0.26
  region: -78.21,1 -93.96,1 -93.96,-0.26 -78.21,-0.26
  region: 88,2 72,2 72,1 88,1
  region: 47,2 27,2 27,1 47,1
  region: 22,2 16,2 16,1 22,1
  region: 14,2 -51.44,2 -51.44,1 14,1
  region: -77.43,2 -93.17,2 -93.17,1 -77.43,1
  region: 88,3 72,3 72,2 88,2
  region: 47,3 26,3 26,2 47,2
  region: 22,3 15,3 15,2 22,2
  region: 14,3 -52.23,3 -52.23,2 14,2
  region: -77.43,3 -93.17,3 -93.17,2 -77.43,2
  region: 86,4 71,4 71,3 86,3
  region: 47,4 25,4 25,3 47,3
  region: 22,4 -53.01,4 -53.01,3 22,3
  region: -76.63,4 -91.59,4 -91.59,3 -76.63,3
  region: 86,5 70,5 70,4 86,4
  region: 47,5 25,5 25,4 47,4
  region: 21,5 -53.8,5 -53.8,4 21,4
  region: -75.85,5 -91.6,5 -91.6,4 -75.85,4
  region: 85,6 70,6 70,5 85,5
  region: 47,6 25,6 25,5 47,5
  region: 21,6 -53.8,6 -53.8,5 21,5
  region: -75.06,6 -90.81,6 -90.81,5 -75.06,5
  region: 85,7 70,7 70,6 85,6
  region: 46,7 24,7 24,6 46,6
  region: 22,7 -54.59,7 -54.59,6 22,6
  region: -75.06,7 -90.81,7 -90.81,6 -75.06,6
  region: 84,8 69,8 69,7 84,7
  region: 45,8 -55.38,8 -55.38,7 45,7
  region: -74.27,8 -90.02,8 -90.02,7 -74.27,7
  region: 84,9 68,9 68,8 84,8
  region: 45,9 -55.38,9 -55.38,8 45,8
  region: -73.49,9 -89.24,9 -89.24,8 -73.49,8
  region: 83,10 68,10 68,9 83,9
  region: 45,10 -55.38,10 -55.38,9 45,9
  region: -73.49,10 -88.45,10 -88.45,9 -73.49,9
  region: 82,11 66,11 66,10 82,10
  region: 44,11 -56.17,11 -56.17,10 44,10
  region: -71.91,11 -87.66,11 -87.66,10 -71.91,10
  region: 82,12 66,12 66,11 82,11
  region: 44,12 -56.95,12 -56.95,11 44,11
  region: -71.91,12 -87.66,12 -87.66,11 -71.91,11
  region: 81,13 66,13 66,12 81,12
  region: 44,13 -56.95,13 -56.95,12 44,12
  region: -71.13,13 -86.87,13 -86.87,12 -71.13,12
  region: 81,14 66,14 66,13 81,13
  region: 43,14 -56.95,14 -56.95,13 43,13
  region: -71.13,14 -86.87,14 -86.87,13 -71.13,13
  region: 80,15 64,15 64,14 80,14
  region: 42,15 -57.74,15 -57.74,14 42,14
  region: -70.34,15 -85.3,15 -85.3,14 -70.34,14
  region: 80,16 64,16 64,15 80,15
  region: 42,16 -58.53,16 -58.53,15 42,15
  region: -69.55,16 -85.3,16 -85.3,15 -69.55,15
  region: 79,17 63,17 63,16 79,16
  region: 42,17 -58.53,17 -58.53,16 42,16
  region: -68.76,17 -84.51,17 -84.51,16 -68.76,16
  region: 79,18 63,18 63,17 79,17
  region: 42,18 -59.31,18 -59.31,17 42,17
  region: -68.76,18 -84.51,18 -84.51,17 -68.76,17
  region: 77,19 62,19 62,18 77,18
  region: 40,19 -60.89,19 -60.89,18 40,18
  region: -67.98,19 -83.72,19 -83.72,18 -67.98,18
  region: 77,20 62,20 62,19 77,19
  region: 41,20 -60.89,20 -60.89,19 41,19
  region: -67.19,20 -82.94,20 -82.94,19 -67.19,19
  region: 77,21 61,21 61,20 77,20
  region: 42,21 -61.68,21 -61.68,20 42,20
  region: -66.4,21 -82.15,21 -82.15,20 -66.4,20
  region: 76,22 60,22 60,21 76,21
  region: 45,22 -63.25,22 -63.25,21 45,21
  region: -65.61,22 -81.36,22 -81.36,21 -65.61,21
  region: 76,23 60,23 60,22 76,22
  region: 47,23 -64.04,23 -64.04,22 47,22
  region: -64.82,23 -81.36,23 -81.36,22 -64.82,22
  region: 75,24 59,24 59,23 75,23
  region: 48,24 -80.57,24 -80.57,23 48,23
  region: 74,25 59,25 59,24 74,24
  region: 49,25 -79.79,25 -79.79,24 49,24
  region: 73,26 58,26 58,25 73,25
  region: 52,26 -79,26 -79,25 52,25
  region: 73,27 58,27 58,26 73,26
  region: 54,27 -79,27 -79,26 54,26
  region: 73,28 57,28 57,27 73,27
  region: 55,28 35,28 35,27 55,27
  region: 34,28 -78.21,28 -78.21,27 34,27
  region: 73,29 57,29 57,28 73,28
  region: 56,29 36,29 36,28 56,28
  region: 34,29 -78.21,29 -78.21,28 34,28
  region: 71,30 39,30 39,29 71,29
  region: 32,30 -76.63,30 -76.63,29 32,29
  region: 71,31 40,31 40,30 71,30
  region: 31,31 -76.64,31 -76.64,30 31,30
  region: 70,32 41,32 41,31 70,31
  region: 30,32 -75.85,32 -75.85,31 30,31
  region: 70,33 42,33 42,32 70,32
  region: 29,33 -75.85,33 -75.85,32 29,32
  region: 70,34 45,34 45,33 70,33
  region: 27,34 -75.06,34 -75.06,33 27,33
  region: 69,35 46,35 46,34 69,34
  region: 25,35 -74.27,35 -74.27,34 25,34
  region: 68,36 47,36 47,35 68,35
  region: 24,36 -73.49,36 -73.49,35 24,35
  region: 67,37 51,37 51,36 67,36
  region: 21,37 -72.7,37 -72.7,36 21,36
  region: 67,38 51,38 51,37 67,37
  region: 21,38 -72.7,38 -72.7,37 21,37
  region: 66,39 51,39 51,38 66,38
  region: 19,39 -71.91,39 -71.91,38 19,38
  region: 66,40 51,40 51,39 66,39
  region: 18,40 -71.91,40 -71.91,39 18,39
  region: 65,41 49,41 49,40 65,40
  region: 16,41 -70.34,41 -70.34,40 16,40
  region: 65,42 49,42 49,41 65,41
  region: 14,42 -70.34,42 -70.34,41 14,41
  region: 64,43 48,43 48,42 64,42
  region: 13,43 -69.55,43 -69.55,42 13,42
  region: 64,44 48,44 48,43 64,43
  region: 12,44 -69.55,44 -69.55,43 12,43
  region: 62,45 47,45 47,44 62,44
  region: 9,45 -67.98,45 -67.98,44 9,44
  region: 62,46 47,46 47,45 62,45
  region: 7,46 -67.97,46 -67.97,45 7,45
  region: 62,47 46,47 46,46 62,46
  region: 6,47 -67.19,47 -67.19,46 6,46
  region: 61,48 45,48 45,47 61,47
  region: -1.05,48 -66.4,48 -66.4,47 -1.05,47
  region: 61,49 45,49 45,48 61,48
  region: -31.76,49 -66.4,49 -66.4,48 -31.76,48
  region: 60,50 44,50 44,49 60,49
  region: -34.12,50 -65.61,50 -65.61,49 -34.12,49
  region: 59,51 44,51 44,50 59,50
  region: -36.48,51 -64.82,51 -64.82,50 -36.48,50
  region: 59,52 43,52 43,51 59,51
  region: -39.63,52 -64.04,52 -64.04,51 -39.63,51
  region: 59,53 43,53 43,52 59,52
  region: -41.99,53 -64.04,53 -64.04,52 -41.99,52
  region: 58,54 42,54 42,53 58,53
  region: -43.56,54 -63.25,54 -63.25,53 -43.56,53
  region: 58,55 42,55 42,54 58,54
  region: -45.14,55 -63.25,55 -63.25,54 -45.14,54
  region: 56,56 40,56 40,55 56,55
  region: -45.93,56 -61.68,56 -61.68,55 -45.93,55
  region: 56,57 40,57 40,56 56,56
  region: -45.14,57 -61.67,57 -61.67,56 -45.14,56
  region: 55,58 40,58 40,57 55,57
  region: -45.14,58 -60.89,58 -60.89,57 -45.14,57
  region: 55,59 40,59 40,58 55,58
  region: -45.14,59 -60.89,59 -60.89,58 -45.14,58
  region: 54,60 39,60 39,59 54,59
  region: -44.35,60 -60.1,60 -60.1,59 -44.35,59
  region: 54,61 38,61 38,60 54,60
  region: -43.56,61 -59.31,61 -59.31,60 -43.56,60
  region: 53,62 37,62 37,61 53,61
  region: -42.78,62 -58.52,62 -58.52,61 -42.78,61
  region: 52,63 36,63 36,62 52,62
  region: -41.99,63 -57.74,63 -57.74,62 -41.99,62
  region: 52,64 36,64 36,63 52,63
  region: -41.99,64 -57.74,64 -57.74,63 -41.99,63
  region: 51,65 36,65 36,64 51,64
  region: -41.2,65 -56.95,65 -56.95,64 -41.2,64
  region: 51,66 36,66 36,65 51,65
  region: -40.42,66 -56.17,66 -56.17,65 -40.42,65
  region: 50,67 34,67 34,66 50,66
  region: -39.63,67 -55.38,67 -55.38,66 -39.63,66
  region: 50,68 34,68 34,67 50,67
  region: -39.63,68 -55.37,68 -55.37,67 -39.63,67
  region: 49,69 33,69 33,68 49,68
  region: -38.84,69 -54.59,69 -54.59,68 -38.84,68
  region: 49,70 33,70 33,69 49,69
  region: -38.84,70 -54.59,70 -54.59,69 -38.84,69
  region: 47,71 32,71 32,70 47,70
  region: -37.27,71 -53.02,71 -53.02,70 -37.27,70
  region: 47,72 32,72 32,71 47,71
  region: -37.27,72 -53.02,72 -53.02,71 -37.27,71
  region: 47,73 31,73 31,72 47,72
  region: -36.48,73 -52.23,73 -52.23,72 -36.48,72
  region: 46,74 30,74 30,73 46,73
  region: -35.69,74 -51.44,74 -51.44,73 -35.69,73
  region: 45,75 30,75 30,74 45,74
  region: -35.69,75 -51.44,75 -51.44,74 -35.69,74
  region: 45,76 29,76 29,75 45,75
  region: -34.91,76 -50.65,76 -50.65,75 -34.91,75
  region: 44,77 29,77 29,76 44,76
  region: -34.12,77 -49.87,77 -49.87,76 -34.12,76
  region: 44,78 28,78 28,77 44,77
  region: -33.33,78 -49.08,78 -49.08,77 -33.33,77
  region: 44,79 28,79 28,78 44,78
  region: -33.33,79 -49.08,79 -49.08,78 -33.33,78
  region: 43,80 27,80 27,79 43,79
  region: -32.54,80 -48.29,80 -48.29,79 -32.54,79
  region: 42,81 27,81 27,80 42,80
  region: -32.54,81 -47.5,81 -47.5,80 -32.54,80
  region: 41,82 25,82 25,81 41,81
  region: -30.97,82 -46.72,82 -46.72,81 -30.97,81
  region: 41,83 25,83 25,82 41,82
  region: -30.97,83 -46.72,83 -46.72,82 -30.97,82
  region: 40,84 25,84 25,83 40,83
  region: -30.18,84 -45.93,84 -45.93,83 -30.18,83
  region: 40,85 24,85 24,84 40,84
  region: -29.39,85 -45.14,85 -45.14,84 -29.39,84
  region: 39,86 23,86 23,85 39,85
  region: -28.6,86 -44.35,86 -44.35,85 -28.6,85
  region: 39,87 23,87 23,86 39,86
  region: -28.6,87 -44.35,87 -44.35,86 -28.6,86
  region: 38,88 22,88 22,87 38,87
  region: -27.81,88 -43.56,88 -43.56,87 -27.81,87
  region: 37,89 21,89 21,88 37,88
  region: -27.03,89 -42.78,89 -42.78,88 -27.03,88
  region: 37,90 22,90 22,89 37,89
  region: -27.03,90 -42.78,90 -42.78,89 -27.03,89
  region: 36,91 21,91 21,90 36,90
  region: -26.24,91 -41.99,91 -41.99,90 -26.24,90
  region: 36,92 20,92 20,91 36,91
  region: -25.46,92 -41.2,92 -41.2,91 -25.46,91
  region: 35,93 19,93 19,92 35,92
  region: -24.67,93 -40.42,93 -40.42,92 -24.67,92
  region: 35,94 19,94 19,93 35,93
  region: -24.67,94 -40.41,94 -40.41,93 -24.67,93
  region: 34,95 18,95 18,94 34,94
  region: -23.88,95 -39.63,95 -39.63,94 -23.88,94
  region: 33,96 18,96 18,95 33,95
  region: -23.88,96 -39.63,96 -39.63,95 -23.88,95
  region: 33,97 17,97 17,96 33,96
  region: -22.31,97 -38.06,97 -38.06,96 -22.31,96
  region: 33,98 17,98 17,97 33,97
  region: -22.31,98 -38.06,98 -38.06,97 -22.31,97
  region: 32,99 16,99 16,98 32,98
  region: -21.52,99 -37.27,99 -37.27,98 -21.52,98
  region: 31,100 15,100 15,99 31,99
  region: -20.73,100 -36.48,100 -36.48,99 -20.73,99
  region: 30,101 15,101 15,100 30,100
  region: -19.94,101 -35.69,101 -35.69,100 -19.94,100
  region: 30,102 14,102 14,101 30,101
  region: -19.94,102 -35.69,102 -35.69,101 -19.94,101
  region: 29,103 14,103 14,102 29,102
  region: -19.16,103 -34.91,103 -34.91,102 -19.16,102
  region: 29,104 13,104 13,103 29,103
  region: -18.37,104 -34.12,104 -34.12,103 -18.37,103
  region: 29,105 13,105 13,104 29,104
  region: -18.37,105 -34.12,105 -34.12,104 -18.37,104
  region: 28,106 12,106 12,105 28,105
  region: -17.58,106 -33.33,106 -33.33,105 -17.58,105
  region: 27,107 11,107 11,106 27,106
  region: -16.79,107 -32.54,107 -32.54,106 -16.79,106
  region: 26,108 10,108 10,107 26,107
  region: -16,108 -31.75,108 -31.75,107 -16,107
  region: 26,109 10,109 10,108 26,108
  region: -16.01,109 -31.76,109 -31.76,108 -16.01,108
  region: 25,110 10,110 10,109 25,109
  region: -15.22,110 -30.97,110 -30.97,109 -15.22,109
  region: 25,111 9,111 9,110 25,110
  region: -14.43,111 -30.18,111 -30.18,110 -14.43,110
  region: 24,112 8,112 8,111 24,111
  region: -13.65,112 -29.39,112 -29.39,111 -13.65,111
  region: 24,113 7,113 7,112 24,112
  region: -13.65,113 -29.39,113 -29.39,112 -13.65,112
  region: 23,114 7,114 7,113 23,113
  region: -12.85,114 -28.6,114 -28.6,113 -12.85,113
  region: 22,115 6,115 6,114 22,114
  region: -10.5,115 -27.82,115 -27.82,114 -10.5,114
  region: 21,116 4,116 4,115 21,115
  region: -9.7,116 -27.82,116 -27.82,115 -9.7,115
  region: 21,117 3,117 3,116 21,116
  region: -8.13,117 -27.03,117 -27.03,116 -8.13,116
  region: 21,118 1,118 1,117 21,117
  region: -4.98,118 -26.24,118 -26.24,117 -4.98,117
  region: 20,119 -25.45,119 -25.45,118 20,118
  region: 20,120 -25.46,120 -25.46,119 20,119
  region: 19,121 -24.67,121 -24.67,120 19,120
  region: 18,122 -23.88,122 -23.88,121 18,121
  region: 18,123 -23.09,123 -23.09,122 18,122
  region: 17,124 -22.31,124 -22.31,123 17,123
  region: 17,125 -22.31,125 -22.31,124 17,124
  region: 15,126 -20.73,126 -20.73,125 15,125
  region: 14,127 -19.94,127 -19.94,126 14,126
  region: 14,128 -19.16,128 -19.16,127 14,127
  region: 13,129 -17.58,129 -17.58,128 13,128
  region: 10,130 -15.22,130 -15.22,129 10,129
  region: 10,131 -14.43,131 -14.43,130 10,130
  region: 7,132 -12.86,132 -12.86,131 7,131
  region: 6,133 -11.28,133 -11.28,132 6,132